# EAGLE library part ETHERNET_RJ-45_INTMAG_POE (library Sparky)
Ethernet Jack with Integrated Magnetics and Power over Ethernet Single RJ-45 "MagJack" with integrated magnetics and LEDs. 10/100 Base with Power over Ethernet.
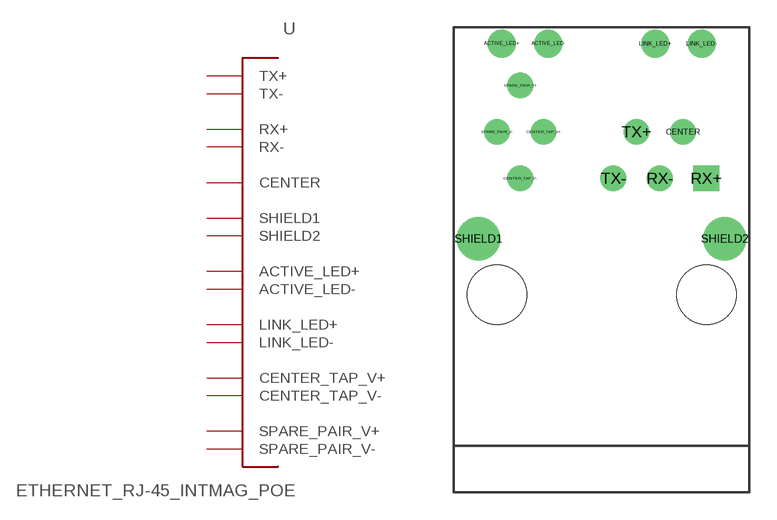
[diagram p0: symbol with the pads of ETHERNET_RJ-45_INTMAG_POE; footprint ETHERNET_RJ-45_INTMAG_POE]

Designator prefix -

## ETHERNET_RJ-45_INTMAG_POE  [ETHERNET_RJ-45_INTMAG_POE]
ACTIVE_LED+  ACTIVE_LED+  in
ACTIVE_LED-  ACTIVE_LED-  out
CENTER  CENTER
CENTER_TAP_V+  CENTER_TAP_V+  pwr
CENTER_TAP_V-  CENTER_TAP_V-  pwr
LINK_LED+  LINK_LED+  in
LINK_LED-  LINK_LED-  out
RX+  RX+  out
RX-  RX-  out
SHIELD1  SHIELD1
SHIELD2  SHIELD2
SPARE_PAIR_V+  SPARE_PAIR_V+  pwr
SPARE_PAIR_V-  SPARE_PAIR_V-  pwr
TX+  TX+  in
TX-  TX-  in

## Footprint ETHERNET_RJ-45_INTMAG_POE (pad centres in mm)
RJ-45 Jack with Integrated Magnetics and Power over Ethernet This RJ-45 jack has integrated magnetics suitable for use with Ethernet and Power over Ethernet
drill 1.016: ACTIVE_LED+ -5.461,13.716; ACTIVE_LED- -2.921,13.716; LINK_LED+ 2.921,13.716; LINK_LED- 5.461,13.716
drill 0.889: CENTER 4.445,8.89; CENTER_TAP_V+ -3.175,8.89; CENTER_TAP_V- -4.445,6.35; RX- 3.175,6.35; SPARE_PAIR_V+ -4.445,11.43; SPARE_PAIR_V- -5.715,8.89; TX+ 1.905,8.89; TX- 0.635,6.35
drill 0.889 square: RX+ 5.715,6.35
drill 1.575: SHIELD1 -6.731,3.048; SHIELD2 6.731,3.048
hole 3.251 at -5.715,0
hole 3.251 at 5.715,0